# EAGLE library part MCP2561 (library Microchip)
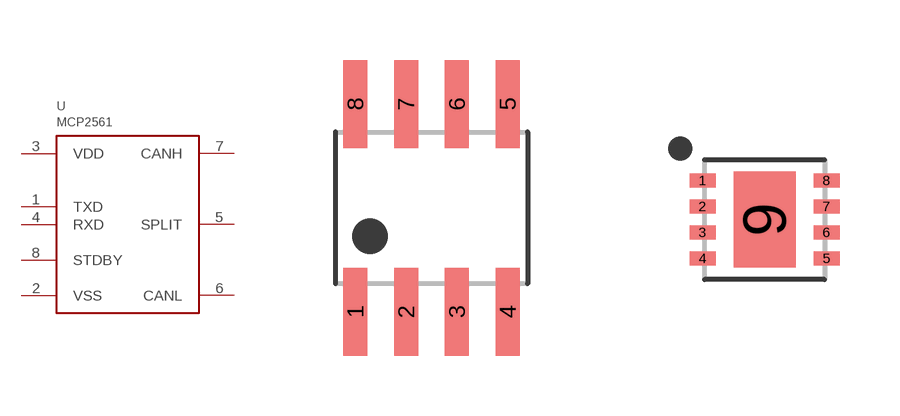
[diagram p26: symbol with the pads of SOIC8; footprints SOIC8, DFN8]

Designator prefix U

## MCP2561-SN  [SOIC8]
1  TXD
2  VSS
3  VDD  pwr
4  RXD
5  SPLIT
6  CANL
7  CANH
8  STDBY

## MCP2561-MF  [DFN8]
1  TXD
2  VSS
3  VDD  pwr
4  RXD
5  SPLIT
6  CANL
7  CANH
8  STDBY
9  VSS

## Footprint SOIC8 (pad centres in mm)
smd 0.6 x 2.2: 1 -1.905,-2.6; 2 -0.635,-2.6; 3 0.635,-2.6; 4 1.905,-2.6; 5 1.905,2.6; 6 0.635,2.6; 7 -0.635,2.6; 8 -1.905,2.6

## Footprint DFN8 (pad centres in mm)
smd 0.65 x 0.35: 1 -1.55,0.975; 2 -1.55,0.325; 3 -1.55,-0.325; 4 -1.55,-0.975; 5 1.55,-0.975; 6 1.55,-0.325; 7 1.55,0.325; 8 1.55,0.975
smd 1.55 x 2.4: 9 0,0